# EAGLE library part FT8X1 (library FTDI)
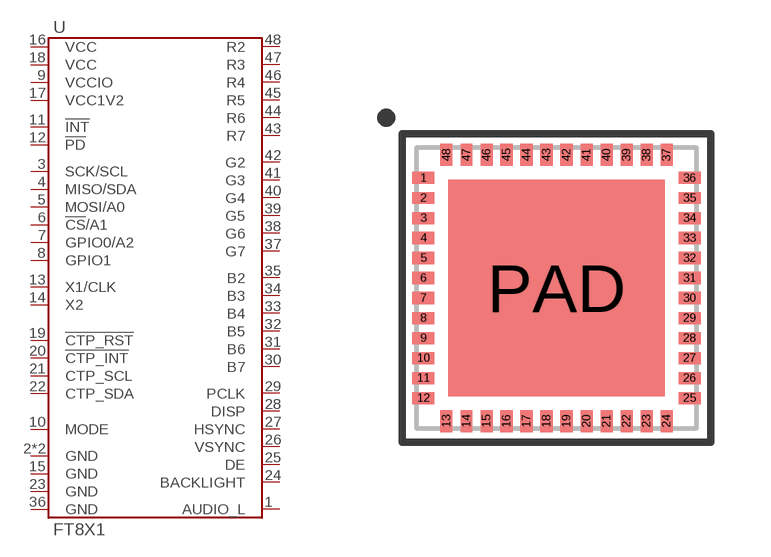
[diagram p3: symbol with the pads of VQFN-48; footprint VQFN-48]

Designator prefix U

## FT8X1Q  [VQFN-48]
1  AUDIO_L
2  GND
3  SCK/SCL
4  MISO/SDA
5  MOSI/A0
6  !CS!/A1
7  GPIO0/A2
8  GPIO1
9  VCCIO
10  MODE
11  !INT
12  !PD
13  X1/CLK
14  X2
15  GND
16  VCC
17  VCC1V2
18  VCC
19  !CTP_RST
20  !CTP_INT
21  CTP_SCL
22  CTP_SDA
23  GND
24  BACKLIGHT
25  DE
26  VSYNC
27  HSYNC
28  DISP
29  PCLK
30  B7
31  B6
32  B5
33  B4
34  B3
35  B2
36  GND
37  G7
38  G6
39  G5
40  G4
41  G3
42  G2
43  R7
44  R6
45  R5
46  R4
47  R3
48  R2
PAD  GND

## Footprint VQFN-48 (pad centres in mm)
smd 0.55 x 0.3: 1 -3.325,2.75; 2 -3.325,2.25; 3 -3.325,1.75; 4 -3.325,1.25; 5 -3.325,0.75; 6 -3.325,0.25; 7 -3.325,-0.25; 8 -3.325,-0.75; 9 -3.325,-1.25; 10 -3.325,-1.75; 11 -3.325,-2.25; 12 -3.325,-2.75; 25 3.325,-2.75; 26 3.325,-2.25; 27 3.325,-1.75; 28 3.325,-1.25; 29 3.325,-0.75; 30 3.325,-0.25; 31 3.325,0.25; 32 3.325,0.75; 33 3.325,1.25; 34 3.325,1.75; 35 3.325,2.25; 36 3.325,2.75
smd 0.3 x 0.55: 13 -2.75,-3.325; 14 -2.25,-3.325; 15 -1.75,-3.325; 16 -1.25,-3.325; 17 -0.75,-3.325; 18 -0.25,-3.325; 19 0.25,-3.325; 20 0.75,-3.325; 21 1.25,-3.325; 22 1.75,-3.325; 23 2.25,-3.325; 24 2.75,-3.325; 37 2.75,3.325; 38 2.25,3.325; 39 1.75,3.325; 40 1.25,3.325; 41 0.75,3.325; 42 0.25,3.325; 43 -0.25,3.325; 44 -0.75,3.325; 45 -1.25,3.325; 46 -1.75,3.325; 47 -2.25,3.325; 48 -2.75,3.325
smd 5.4 x 5.4: PAD 0,0